# Altium schematic symbol library Schlib1.SchLib: 18 symbols
Pins are listed as number, name and electrical type; pins without a type are passive.

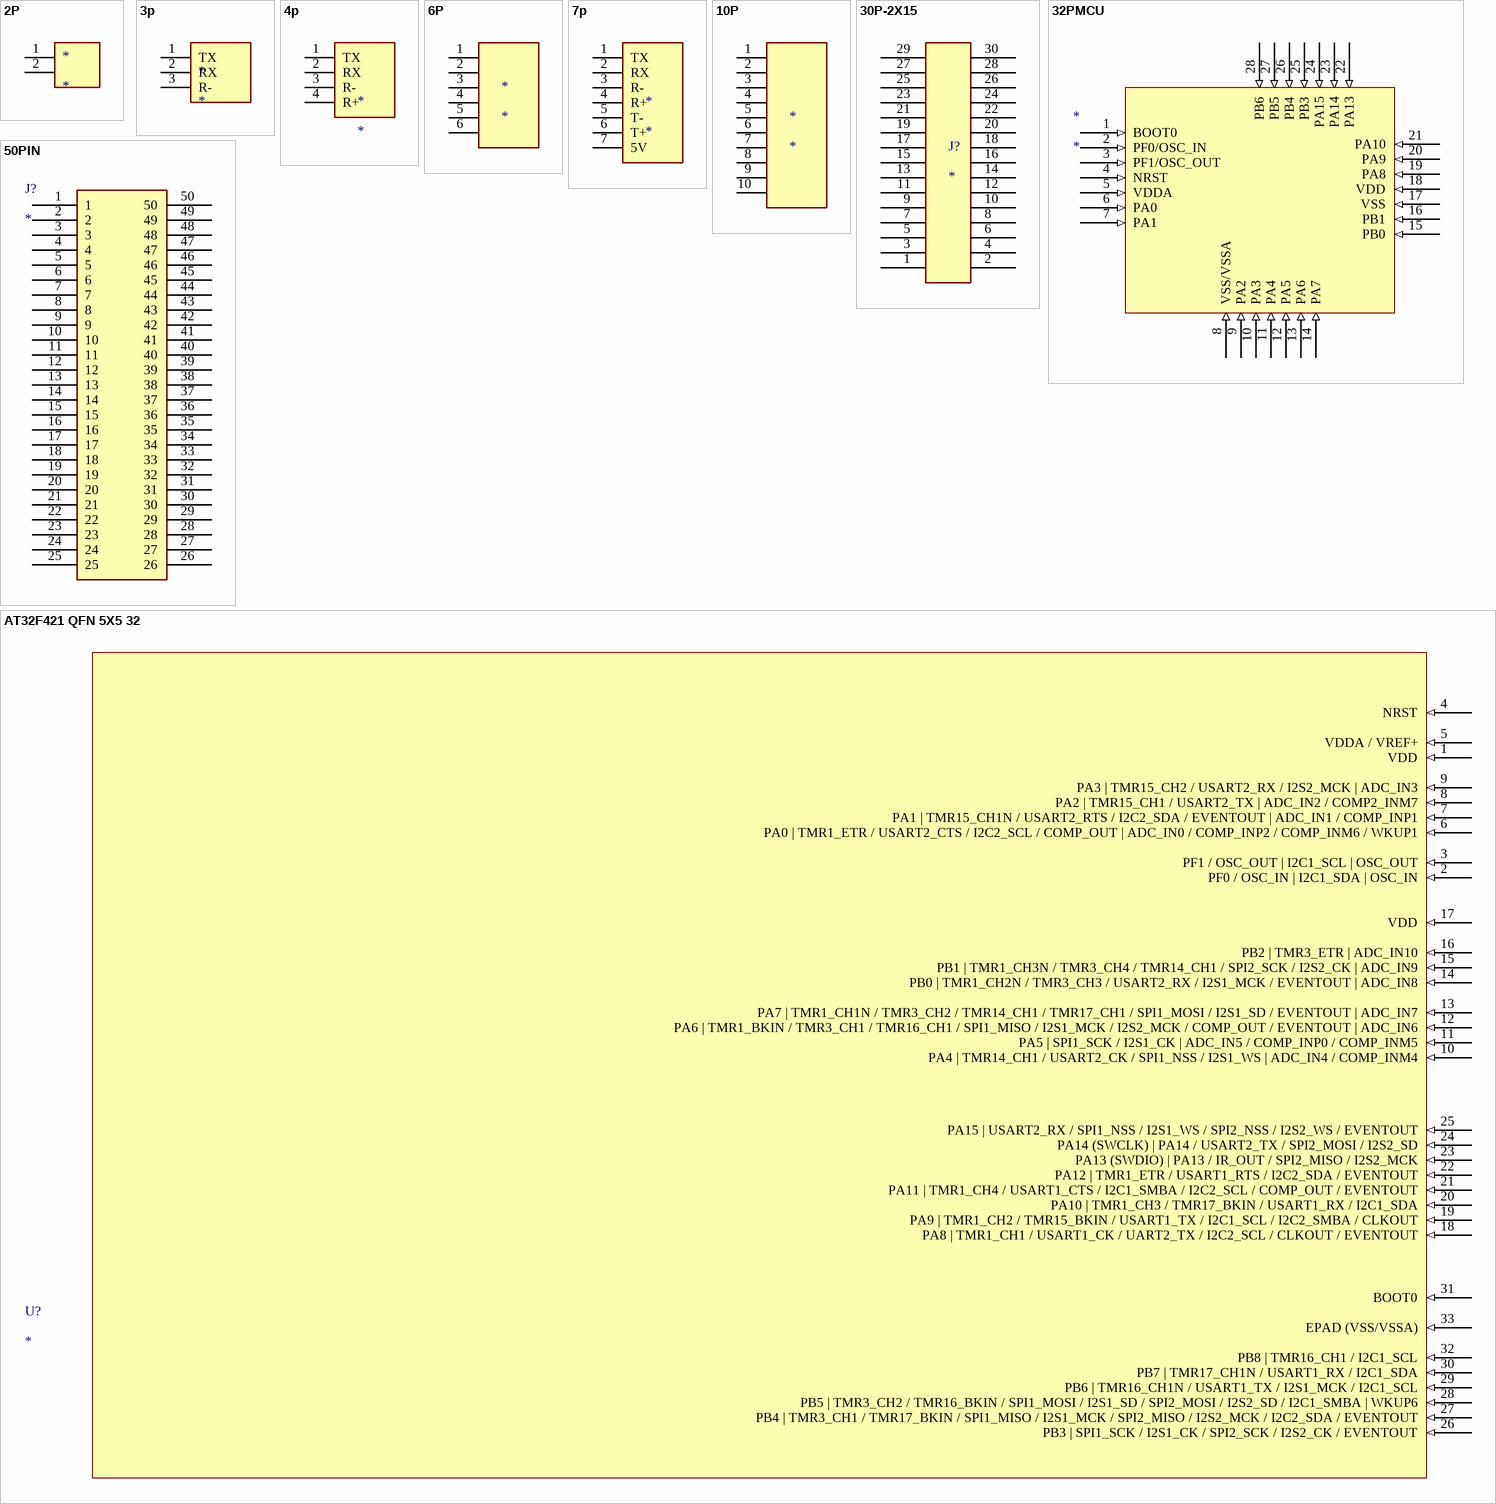
[diagram p0: symbols 2P to AT32F421 QFN 5X5 32]

## 2P
designator *
pins: 1, 2

## 3p
designator *
pins: 1 TX, 2 RX, 3 R-

## 4p
designator *
pins: 1 TX, 2 RX, 3 R-, 4 R+

## 6P
designator *
pins: 1, 2, 3, 4, 5, 6

## 7p
designator *
pins: 1 TX, 2 RX, 3 R-, 4 R+, 5 T-, 6 T+, 7 5V

## 10P
designator *
pins: 1, 2, 3, 4, 5, 6, 7, 8, 9, 10

## 30P-2X15
designator J?
pins: 1 (oc), 2 (oc), 3 (oc), 4 (oc), 5 (oc), 6 (oc), 7 (oc), 8 (oc), 9 (oc), 10 (oc), 11 (oc), 12 (oc), 13 (oc), 14 (oc), 15 (oc), 16 (oc), 17 (oc), 18 (oc), 19 (oc), 20 (oc), 21 (oc), 22 (oc), 23 (oc), 24 (oc), 25 (oc), 26 (oc), 27 (oc), 28 (oc), 29 (oc), 30 (oc)

## 32PMCU
designator *
pins: 1 BOOT0 (in), 2 PF0/OSC_IN (in), 3 PF1/OSC_OUT (in), 4 NRST (in), 5 VDDA (in), 6 PA0 (in), 7 PA1 (in), 8 VSS/VSSA (in), 9 PA2 (in), 10 PA3 (in), 11 PA4 (in), 12 PA5 (in), 13 PA6 (in), 14 PA7 (in), 15 PB0 (in), 16 PB1 (in), 17 VSS (in), 18 VDD (in), 19 PA8 (in), 20 PA9 (in), 21 PA10 (in), 22 PA13 (in), 23 PA14 (in), 24 PA15 (in), 25 PB3 (in), 26 PB4 (in), 27 PB5 (in), 28 PB6 (in)

## 50PIN
designator J?
pins: 1, 2, 3, 4, 5, 6, 7, 8, 9, 10, 11, 12, 13, 14, 15, 16, 17, 18, 19, 20, 21, 22, 23, 24, 25, 26, 27, 28, 29, 30, 31, 32, 33, 34, 35, 36, 37, 38, 39, 40, 41, 42, 43, 44, 45, 46, 47, 48, 49, 50

## AT32F421 QFN 5X5 32
designator U?
footprint QFN 5x5 32 (QFN, 32-Leads, Body 5.00x5.00mm, Pitch 0.50mm, Thermal Pad 3.25x3.25mm, IPC Medium Density)
pins: 1 VDD (in), 2 PF0 / OSC_IN | I2C1_SDA | OSC_IN (in), 3 PF1 / OSC_OUT | I2C1_SCL | OSC_OUT (in), 4 NRST (in), 5 VDDA / VREF+ (in), 6 PA0 | TMR1_ETR / USART2_CTS / I2C2_SCL / COMP_OUT | ADC_IN0 / COMP_INP2 / COMP_INM6 / WKUP1 (in), 7 PA1 | TMR15_CH1N / USART2_RTS / I2C2_SDA / EVENTOUT | ADC_IN1 / COMP_INP1 (in), 8 PA2 | TMR15_CH1 / USART2_TX | ADC_IN2 / COMP2_INM7 (in), 9 PA3 | TMR15_CH2 / USART2_RX / I2S2_MCK | ADC_IN3 (in), 10 PA4 | TMR14_CH1 / USART2_CK / SPI1_NSS / I2S1_WS | ADC_IN4 / COMP_INM4 (in), 11 PA5 | SPI1_SCK / I2S1_CK | ADC_IN5 / COMP_INP0 / COMP_INM5 (in), 12 PA6 | TMR1_BKIN / TMR3_CH1 / TMR16_CH1 / SPI1_MISO / I2S1_MCK / I2S2_MCK / COMP_OUT / EVENTOUT | ADC_IN6 (in), 13 PA7 | TMR1_CH1N / TMR3_CH2 / TMR14_CH1 / TMR17_CH1 / SPI1_MOSI / I2S1_SD / EVENTOUT | ADC_IN7 (in), 14 PB0 | TMR1_CH2N / TMR3_CH3 / USART2_RX / I2S1_MCK / EVENTOUT | ADC_IN8 (in), 15 PB1 | TMR1_CH3N / TMR3_CH4 / TMR14_CH1 / SPI2_SCK / I2S2_CK | ADC_IN9 (in), 16 PB2 | TMR3_ETR | ADC_IN10 (in), 17 VDD (in), 18 PA8 | TMR1_CH1 / USART1_CK / UART2_TX / I2C2_SCL / CLKOUT / EVENTOUT (in), 19 PA9 | TMR1_CH2 / TMR15_BKIN / USART1_TX / I2C1_SCL / I2C2_SMBA / CLKOUT (in), 20 PA10 | TMR1_CH3 / TMR17_BKIN / USART1_RX / I2C1_SDA (in), 21 PA11 | TMR1_CH4 / USART1_CTS / I2C1_SMBA / I2C2_SCL / COMP_OUT / EVENTOUT (in), 22 PA12 | TMR1_ETR / USART1_RTS / I2C2_SDA / EVENTOUT (in), 23 PA13 (SWDIO) | PA13 / IR_OUT / SPI2_MISO / I2S2_MCK (in), 24 PA14 (SWCLK) | PA14 / USART2_TX / SPI2_MOSI / I2S2_SD (in), 25 PA15 | USART2_RX / SPI1_NSS / I2S1_WS / SPI2_NSS / I2S2_WS / EVENTOUT (in), 26 PB3 | SPI1_SCK / I2S1_CK / SPI2_SCK / I2S2_CK / EVENTOUT (in), 27 PB4 | TMR3_CH1 / TMR17_BKIN / SPI1_MISO / I2S1_MCK / SPI2_MISO / I2S2_MCK / I2C2_SDA / EVENTOUT (in), 28 PB5 | TMR3_CH2 / TMR16_BKIN / SPI1_MOSI / I2S1_SD / SPI2_MOSI / I2S2_SD / I2C1_SMBA | WKUP6 (in), 29 PB6 | TMR16_CH1N / USART1_TX / I2S1_MCK / I2C1_SCL (in), 30 PB7 | TMR17_CH1N / USART1_RX / I2C1_SDA (in), 31 BOOT0 (in), 32 PB8 | TMR16_CH1 / I2C1_SCL (in), 33 EPAD (VSS/VSSA) (in)

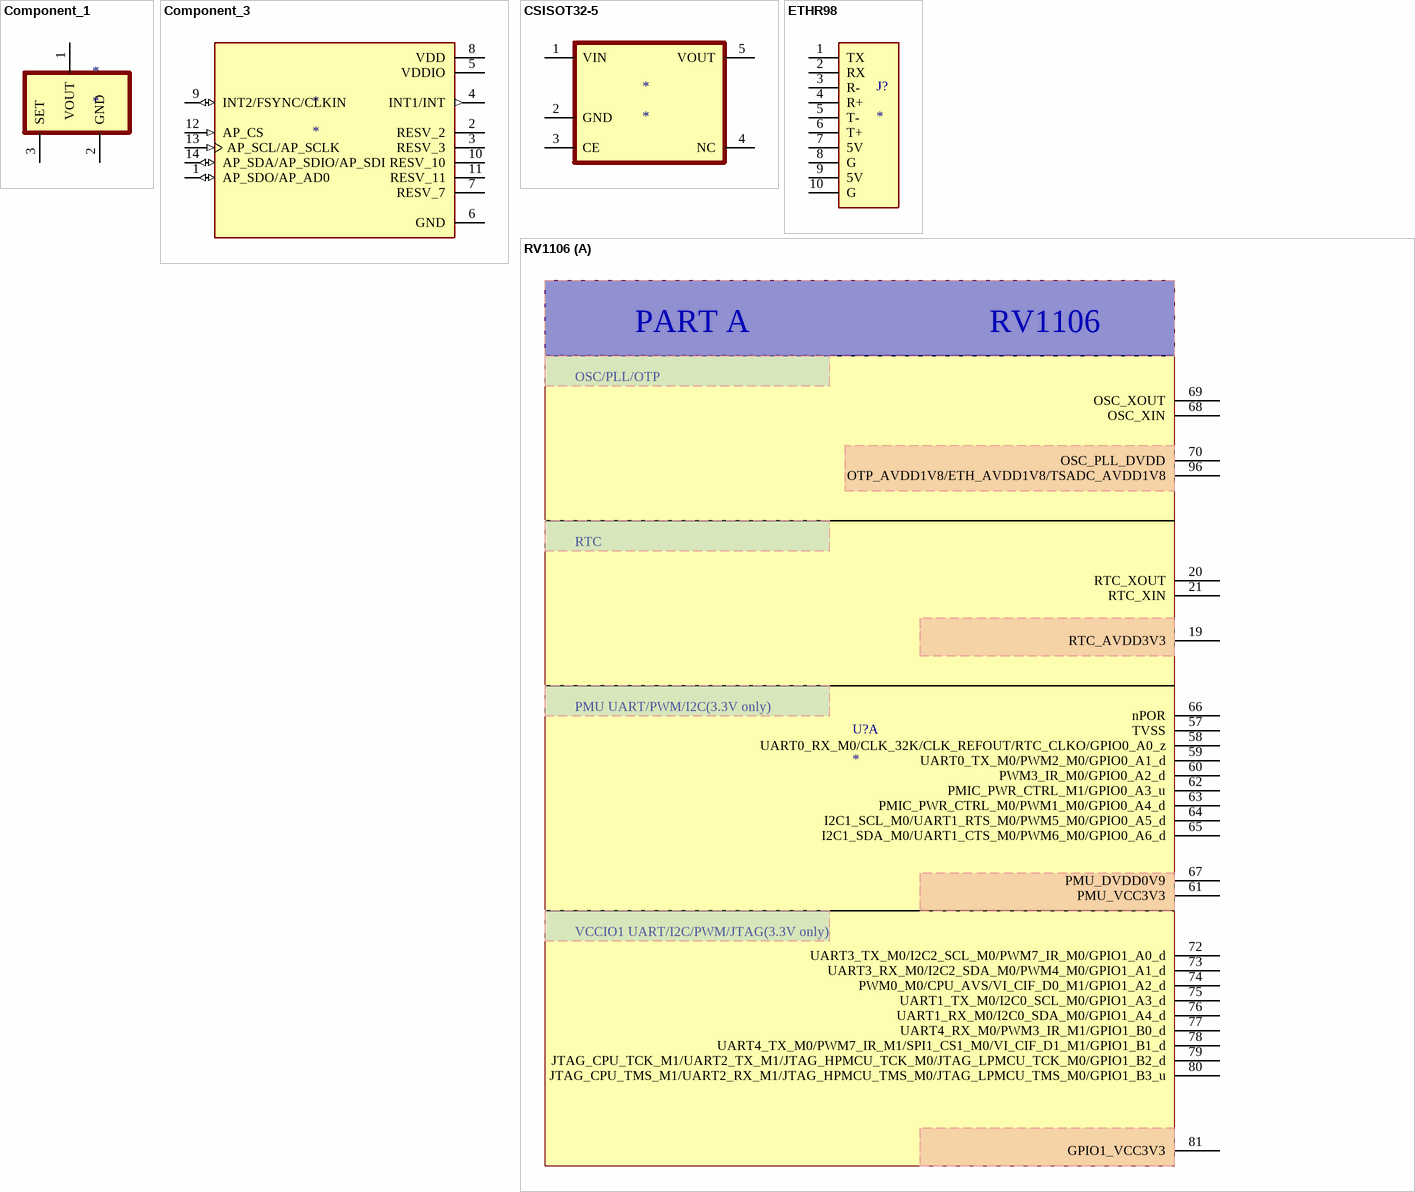
[diagram p1: symbols Component_1 to RV1106]

## Component_1
designator *
pins: 1 VOUT (oc), 2 GND (power), 3 SET (oc)

## Component_3
designator *
footprint PCBComponent_1
pins: 1 AP_SDO/AP_AD0 (io), 2 RESV_2, 3 RESV_3, 4 INT1/INT (out), 5 VDDIO (power), 6 GND (power), 7 RESV_7, 8 VDD (power), 9 INT2/FSYNC/CLKIN (io), 10 RESV_10, 11 RESV_11, 12 AP_CS (in), 13 AP_SCL/AP_SCLK (in), 14 AP_SDA/AP_SDIO/AP_SDI (io)

## CSISOT32-5
designator *
pins: 1 VIN (oc), 2 GND (power), 3 CE (oc), 4 NC (oc), 5 VOUT (oc)

## ETHR98
designator J?
pins: 1 TX, 2 RX, 3 R-, 4 R+, 5 T-, 6 T+, 7 5V, 8 G, 9 5V, 10 G

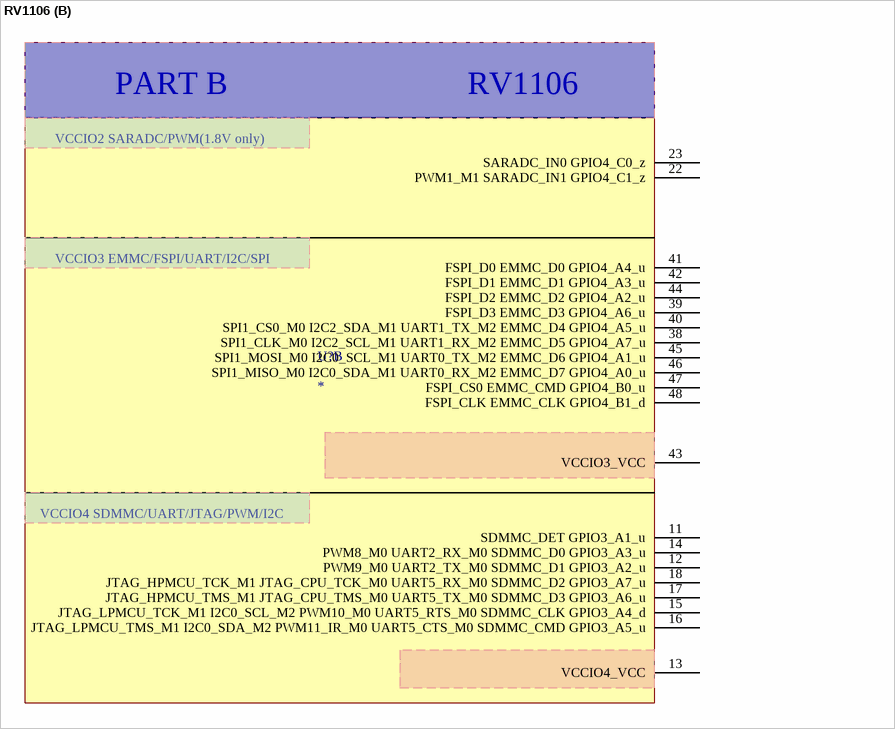
[diagram p2: symbol RV1106]

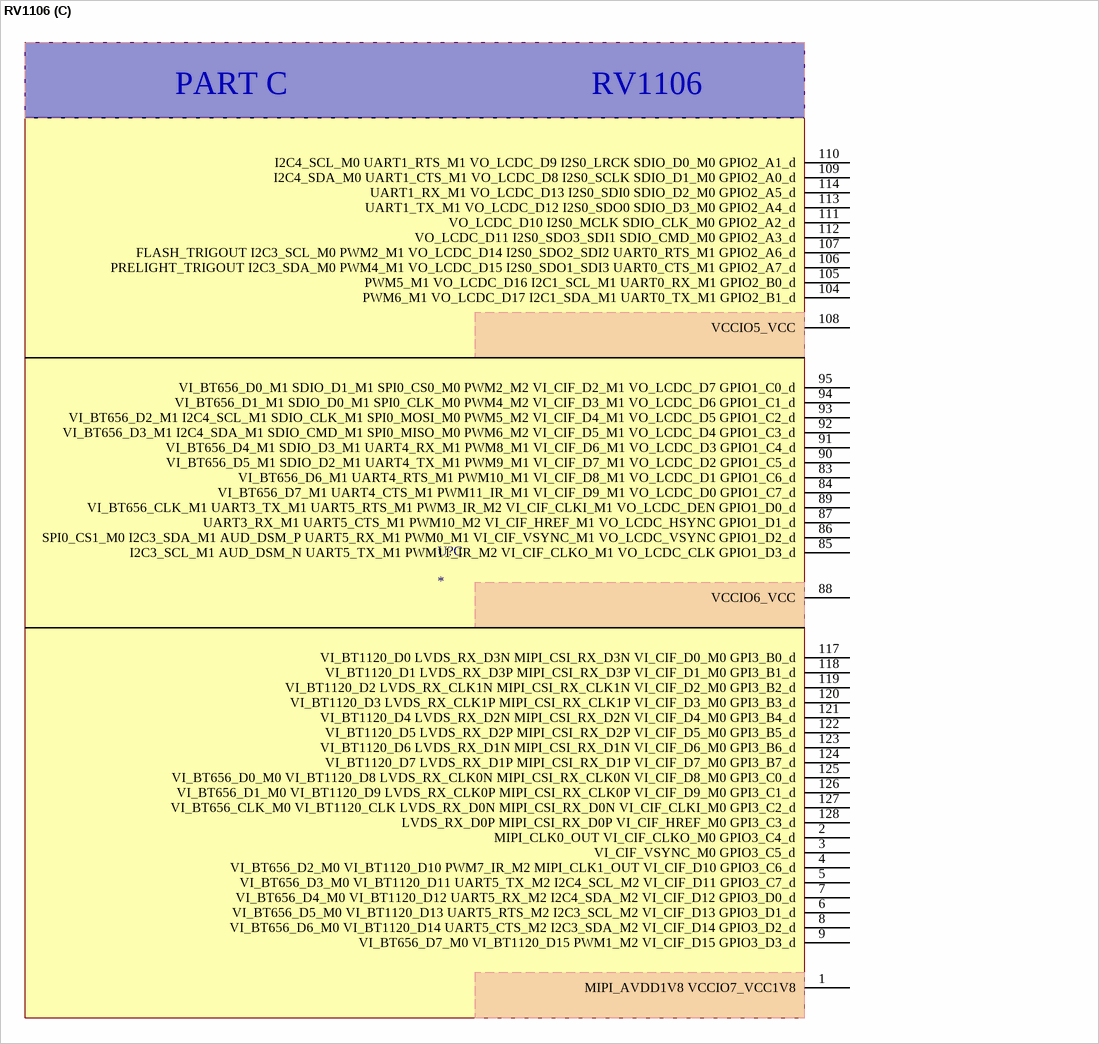
[diagram p3: symbol RV1106]

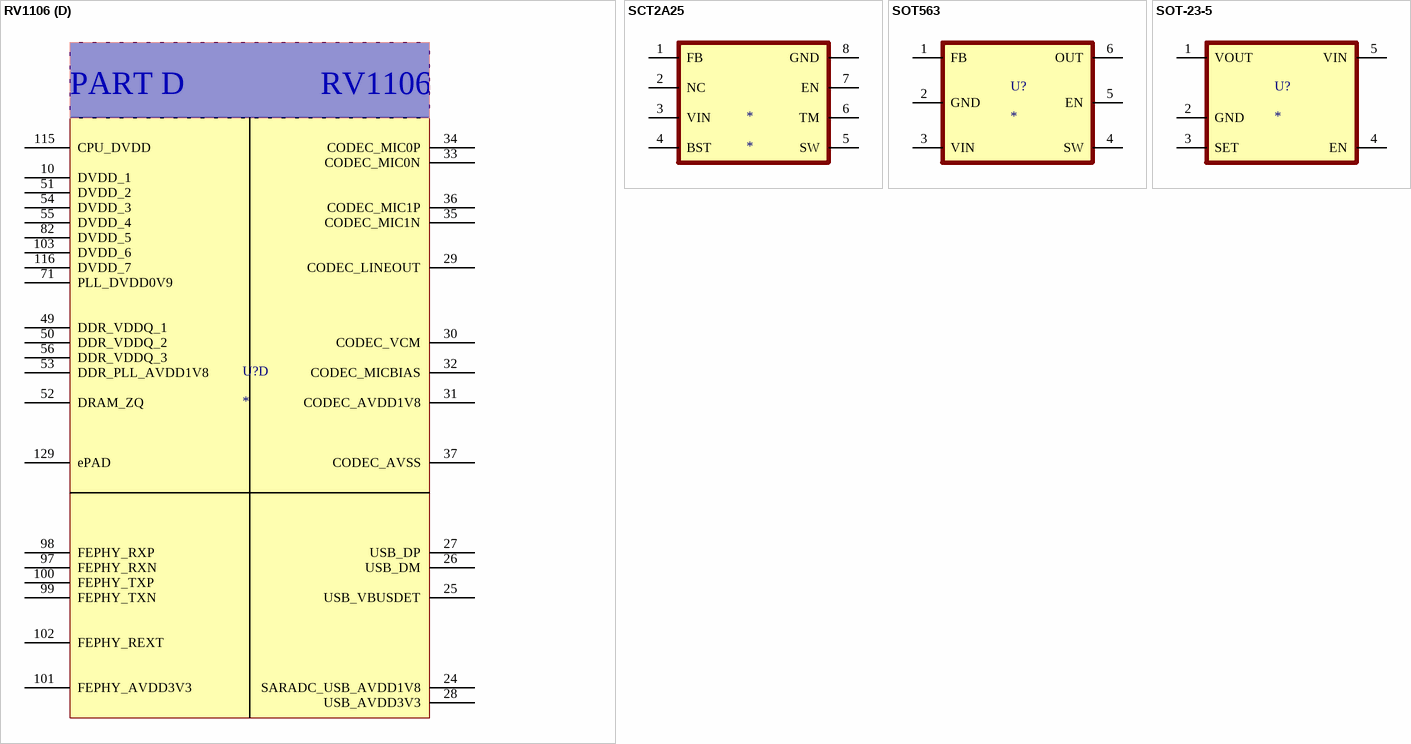
[diagram p4: symbols RV1106 to SOT-23-5]

## RV1106
designator U?
footprint QFN35P1230X1230X90_HS-129N (QFN, 128-Leads, Body 12.30x12.30mm, Pitch 0.35mm, Thermal Pad 7.00x7.00mm, IPC Medium Density)
part A pins: 19 RTC_AVDD3V3 (oc), 20 RTC_XOUT (oc), 21 RTC_XIN (oc), 57 TVSS (oc), 58 UART0_RX_M0/CLK_32K/CLK_REFOUT/RTC_CLKO/GPIO0_A0_z (oc), 59 UART0_TX_M0/PWM2_M0/GPIO0_A1_d (oc), 60 PWM3_IR_M0/GPIO0_A2_d (oc), 61 PMU_VCC3V3 (oc), 62 PMIC_PWR_CTRL_M1/GPIO0_A3_u (oc), 63 PMIC_PWR_CTRL_M0/PWM1_M0/GPIO0_A4_d (oc), 64 I2C1_SCL_M0/UART1_RTS_M0/PWM5_M0/GPIO0_A5_d (oc), 65 I2C1_SDA_M0/UART1_CTS_M0/PWM6_M0/GPIO0_A6_d (oc), 66 nPOR (oc), 67 PMU_DVDD0V9 (oc), 68 OSC_XIN (oc), 69 OSC_XOUT (oc), 70 OSC_PLL_DVDD (oc), 72 UART3_TX_M0/I2C2_SCL_M0/PWM7_IR_M0/GPIO1_A0_d (oc), 73 UART3_RX_M0/I2C2_SDA_M0/PWM4_M0/GPIO1_A1_d (oc), 74 PWM0_M0/CPU_AVS/VI_CIF_D0_M1/GPIO1_A2_d (oc), 75 UART1_TX_M0/I2C0_SCL_M0/GPIO1_A3_d (oc), 76 UART1_RX_M0/I2C0_SDA_M0/GPIO1_A4_d (oc), 77 UART4_RX_M0/PWM3_IR_M1/GPIO1_B0_d (oc), 78 UART4_TX_M0/PWM7_IR_M1/SPI1_CS1_M0/VI_CIF_D1_M1/GPIO1_B1_d (oc), 79 JTAG_CPU_TCK_M1/UART2_TX_M1/JTAG_HPMCU_TCK_M0/JTAG_LPMCU_TCK_M0/GPIO1_B2_d (oc), 80 JTAG_CPU_TMS_M1/UART2_RX_M1/JTAG_HPMCU_TMS_M0/JTAG_LPMCU_TMS_M0/GPIO1_B3_u (oc), 81 GPIO1_VCC3V3 (oc), 96 OTP_AVDD1V8/ETH_AVDD1V8/TSADC_AVDD1V8 (oc)
part B pins: 11 SDMMC_DET GPIO3_A1_u (oc), 12 PWM9_M0 UART2_TX_M0 SDMMC_D1 GPIO3_A2_u (oc), 13 VCCIO4_VCC (oc), 14 PWM8_M0 UART2_RX_M0 SDMMC_D0 GPIO3_A3_u (oc), 15 JTAG_LPMCU_TCK_M1 I2C0_SCL_M2 PWM10_M0 UART5_RTS_M0 SDMMC_CLK GPIO3_A4_d (oc), 16 JTAG_LPMCU_TMS_M1 I2C0_SDA_M2 PWM11_IR_M0 UART5_CTS_M0 SDMMC_CMD GPIO3_A5_u (oc), 17 JTAG_HPMCU_TMS_M1 JTAG_CPU_TMS_M0 UART5_TX_M0 SDMMC_D3 GPIO3_A6_u (oc), 18 JTAG_HPMCU_TCK_M1 JTAG_CPU_TCK_M0 UART5_RX_M0 SDMMC_D2 GPIO3_A7_u (oc), 22 PWM1_M1 SARADC_IN1 GPIO4_C1_z (oc), 23 SARADC_IN0 GPIO4_C0_z (oc), 38 SPI1_CLK_M0 I2C2_SCL_M1 UART1_RX_M2 EMMC_D5 GPIO4_A7_u (oc), 39 FSPI_D3 EMMC_D3 GPIO4_A6_u (oc), 40 SPI1_CS0_M0 I2C2_SDA_M1 UART1_TX_M2 EMMC_D4 GPIO4_A5_u (oc), 41 FSPI_D0 EMMC_D0 GPIO4_A4_u (oc), 42 FSPI_D1 EMMC_D1 GPIO4_A3_u (oc), 43 VCCIO3_VCC (oc), 44 FSPI_D2 EMMC_D2 GPIO4_A2_u (oc), 45 SPI1_MOSI_M0 I2C0_SCL_M1 UART0_TX_M2 EMMC_D6 GPIO4_A1_u (oc), 46 SPI1_MISO_M0 I2C0_SDA_M1 UART0_RX_M2 EMMC_D7 GPIO4_A0_u (oc), 47 FSPI_CS0 EMMC_CMD GPIO4_B0_u (oc), 48 FSPI_CLK EMMC_CLK GPIO4_B1_d (oc)
part C pins: 1 MIPI_AVDD1V8 VCCIO7_VCC1V8 (oc), 2 MIPI_CLK0_OUT VI_CIF_CLKO_M0 GPIO3_C4_d (oc), 3 VI_CIF_VSYNC_M0 GPIO3_C5_d (oc), 4 VI_BT656_D2_M0 VI_BT1120_D10 PWM7_IR_M2 MIPI_CLK1_OUT VI_CIF_D10 GPIO3_C6_d (oc), 5 VI_BT656_D3_M0 VI_BT1120_D11 UART5_TX_M2 I2C4_SCL_M2 VI_CIF_D11 GPIO3_C7_d (oc), 6 VI_BT656_D5_M0 VI_BT1120_D13 UART5_RTS_M2 I2C3_SCL_M2 VI_CIF_D13 GPIO3_D1_d (oc), 7 VI_BT656_D4_M0 VI_BT1120_D12 UART5_RX_M2 I2C4_SDA_M2 VI_CIF_D12 GPIO3_D0_d (oc), 8 VI_BT656_D6_M0 VI_BT1120_D14 UART5_CTS_M2 I2C3_SDA_M2 VI_CIF_D14 GPIO3_D2_d (oc), 9 VI_BT656_D7_M0 VI_BT1120_D15 PWM1_M2 VI_CIF_D15 GPIO3_D3_d (oc), 83 VI_BT656_D6_M1 UART4_RTS_M1 PWM10_M1 VI_CIF_D8_M1 VO_LCDC_D1 GPIO1_C6_d (oc), 84 VI_BT656_D7_M1 UART4_CTS_M1 PWM11_IR_M1 VI_CIF_D9_M1 VO_LCDC_D0 GPIO1_C7_d (oc), 85 I2C3_SCL_M1 AUD_DSM_N UART5_TX_M1 PWM11_IR_M2 VI_CIF_CLKO_M1 VO_LCDC_CLK GPIO1_D3_d (oc), 86 SPI0_CS1_M0 I2C3_SDA_M1 AUD_DSM_P UART5_RX_M1 PWM0_M1 VI_CIF_VSYNC_M1 VO_LCDC_VSYNC GPIO1_D2_d (oc), 87 UART3_RX_M1 UART5_CTS_M1 PWM10_M2 VI_CIF_HREF_M1 VO_LCDC_HSYNC GPIO1_D1_d (oc), 88 VCCIO6_VCC (oc), 89 VI_BT656_CLK_M1 UART3_TX_M1 UART5_RTS_M1 PWM3_IR_M2 VI_CIF_CLKI_M1 VO_LCDC_DEN GPIO1_D0_d (oc), 90 VI_BT656_D5_M1 SDIO_D2_M1 UART4_TX_M1 PWM9_M1 VI_CIF_D7_M1 VO_LCDC_D2 GPIO1_C5_d (oc), 91 VI_BT656_D4_M1 SDIO_D3_M1 UART4_RX_M1 PWM8_M1 VI_CIF_D6_M1 VO_LCDC_D3 GPIO1_C4_d (oc), 92 VI_BT656_D3_M1 I2C4_SDA_M1 SDIO_CMD_M1 SPI0_MISO_M0 PWM6_M2 VI_CIF_D5_M1 VO_LCDC_D4 GPIO1_C3_d (oc), 93 VI_BT656_D2_M1 I2C4_SCL_M1 SDIO_CLK_M1 SPI0_MOSI_M0 PWM5_M2 VI_CIF_D4_M1 VO_LCDC_D5 GPIO1_C2_d (oc), 94 VI_BT656_D1_M1 SDIO_D0_M1 SPI0_CLK_M0 PWM4_M2 VI_CIF_D3_M1 VO_LCDC_D6 GPIO1_C1_d (oc), 95 VI_BT656_D0_M1 SDIO_D1_M1 SPI0_CS0_M0 PWM2_M2 VI_CIF_D2_M1 VO_LCDC_D7 GPIO1_C0_d (oc), 104 PWM6_M1 VO_LCDC_D17 I2C1_SDA_M1 UART0_TX_M1 GPIO2_B1_d (oc), 105 PWM5_M1 VO_LCDC_D16 I2C1_SCL_M1 UART0_RX_M1 GPIO2_B0_d (oc), 106 PRELIGHT_TRIGOUT I2C3_SDA_M0 PWM4_M1 VO_LCDC_D15 I2S0_SDO1_SDI3 UART0_CTS_M1 GPIO2_A7_d (oc), 107 FLASH_TRIGOUT I2C3_SCL_M0 PWM2_M1 VO_LCDC_D14 I2S0_SDO2_SDI2 UART0_RTS_M1 GPIO2_A6_d (oc), 108 VCCIO5_VCC (oc), 109 I2C4_SDA_M0 UART1_CTS_M1 VO_LCDC_D8 I2S0_SCLK SDIO_D1_M0 GPIO2_A0_d (oc), 110 I2C4_SCL_M0 UART1_RTS_M1 VO_LCDC_D9 I2S0_LRCK SDIO_D0_M0 GPIO2_A1_d (oc), 111 VO_LCDC_D10 I2S0_MCLK SDIO_CLK_M0 GPIO2_A2_d (oc), 112 VO_LCDC_D11 I2S0_SDO3_SDI1 SDIO_CMD_M0 GPIO2_A3_d (oc), 113 UART1_TX_M1 VO_LCDC_D12 I2S0_SDO0 SDIO_D3_M0 GPIO2_A4_d (oc), 114 UART1_RX_M1 VO_LCDC_D13 I2S0_SDI0 SDIO_D2_M0 GPIO2_A5_d (oc), 117 VI_BT1120_D0 LVDS_RX_D3N MIPI_CSI_RX_D3N VI_CIF_D0_M0 GPI3_B0_d (oc), 118 VI_BT1120_D1 LVDS_RX_D3P MIPI_CSI_RX_D3P VI_CIF_D1_M0 GPI3_B1_d (oc), 119 VI_BT1120_D2 LVDS_RX_CLK1N MIPI_CSI_RX_CLK1N VI_CIF_D2_M0 GPI3_B2_d (oc), 120 VI_BT1120_D3 LVDS_RX_CLK1P MIPI_CSI_RX_CLK1P VI_CIF_D3_M0 GPI3_B3_d (oc), 121 VI_BT1120_D4 LVDS_RX_D2N MIPI_CSI_RX_D2N VI_CIF_D4_M0 GPI3_B4_d (oc), 122 VI_BT1120_D5 LVDS_RX_D2P MIPI_CSI_RX_D2P VI_CIF_D5_M0 GPI3_B5_d (oc), 123 VI_BT1120_D6 LVDS_RX_D1N MIPI_CSI_RX_D1N VI_CIF_D6_M0 GPI3_B6_d (oc), 124 VI_BT1120_D7 LVDS_RX_D1P MIPI_CSI_RX_D1P VI_CIF_D7_M0 GPI3_B7_d (oc), 125 VI_BT656_D0_M0 VI_BT1120_D8 LVDS_RX_CLK0N MIPI_CSI_RX_CLK0N VI_CIF_D8_M0 GPI3_C0_d (oc), 126 VI_BT656_D1_M0 VI_BT1120_D9 LVDS_RX_CLK0P MIPI_CSI_RX_CLK0P VI_CIF_D9_M0 GPI3_C1_d (oc), 127 VI_BT656_CLK_M0 VI_BT1120_CLK LVDS_RX_D0N MIPI_CSI_RX_D0N VI_CIF_CLKI_M0 GPI3_C2_d (oc), 128 LVDS_RX_D0P MIPI_CSI_RX_D0P VI_CIF_HREF_M0 GPI3_C3_d (oc)
part D pins: 10 DVDD_1 (oc), 24 SARADC_USB_AVDD1V8 (oc), 25 USB_VBUSDET (oc), 26 USB_DM (oc), 27 USB_DP (oc), 28 USB_AVDD3V3 (oc), 29 CODEC_LINEOUT (oc), 30 CODEC_VCM (oc), 31 CODEC_AVDD1V8 (oc), 32 CODEC_MICBIAS (oc), 33 CODEC_MIC0N (oc), 34 CODEC_MIC0P (oc), 35 CODEC_MIC1N (oc), 36 CODEC_MIC1P (oc), 37 CODEC_AVSS (oc), 49 DDR_VDDQ_1 (oc), 50 DDR_VDDQ_2 (oc), 51 DVDD_2 (oc), 52 DRAM_ZQ (oc), 53 DDR_PLL_AVDD1V8 (oc), 54 DVDD_3 (oc), 55 DVDD_4 (oc), 56 DDR_VDDQ_3 (oc), 71 PLL_DVDD0V9 (oc), 82 DVDD_5 (oc), 97 FEPHY_RXN (oc), 98 FEPHY_RXP (oc), 99 FEPHY_TXN (oc), 100 FEPHY_TXP (oc), 101 FEPHY_AVDD3V3 (oc), 102 FEPHY_REXT (oc), 103 DVDD_6 (oc), 115 CPU_DVDD (oc), 116 DVDD_7 (oc), 129 ePAD (oc)
part A text: PART A                              RV1106; OSC/PLL/OTP; RTC; PMU UART/PWM/I2C(3.3V only); VCCIO1 UART/I2C/PWM/JTAG(3.3V only)
part B text: PART B                              RV1106; VCCIO2 SARADC/PWM(1.8V only); VCCIO3 EMMC/FSPI/UART/I2C/SPI; VCCIO4 SDMMC/UART/JTAG/PWM/I2C
part C text: PART C                                      RV1106
part D text: PART D                 RV1106

## SCT2A25
designator *
pins: 1 FB (oc), 2 NC (power), 3 VIN (oc), 4 BST (oc), 5 SW (oc), 6 TM (oc), 7 EN (oc), 8 GND (oc)

## SOT563
designator U?
pins: 1 FB (oc), 2 GND (power), 3 VIN (oc), 4 SW (oc), 5 EN (oc), 6 OUT (oc)

## SOT-23-5
designator U?
footprint SOT23-5
pins: 1 VOUT (oc), 2 GND (power), 3 SET (oc), 4 EN (oc), 5 VIN (oc)